# EAGLE library part SFML-107-02-L-D-A (library SFML-107-02-L-D-A)
Check availability <https://pricing.snapeda.com/parts/SFML-107-02-L-D-A/Samtec/view-part?ref=eda>
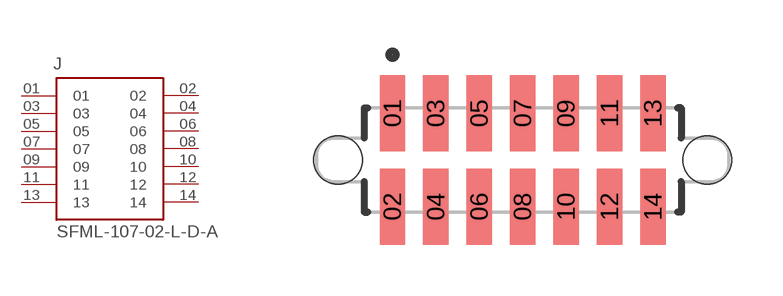
[diagram p0: symbol with the pads of SAMTEC_SFML-107-02-L-D-A; footprint SAMTEC_SFML-107-02-L-D-A]

Designator prefix J

## SFML-107-02-L-D-A (Availability: In Stock; Description: 14 Position Receptacle Connector 0.050 (1.27mm) Surface Mount Gold; MF: Samtec; MP: SFML-107-02-L-D-A; Package: None; Price: None; Purchase-URL: https://pricing.snapeda.com/search/part/SFML-107-02-L-D-A/?ref=eda)  [SAMTEC_SFML-107-02-L-D-A]
01  01  pas
02  02  pas
03  03  pas
04  04  pas
05  05  pas
06  06  pas
07  07  pas
08  08  pas
09  09  pas
10  10  pas
11  11  pas
12  12  pas
13  13  pas
14  14  pas

## Footprint SAMTEC_SFML-107-02-L-D-A (pad centres in mm)
smd 0.74 x 2.22: 01 -3.81,1.365; 02 -3.81,-1.365; 03 -2.54,1.365; 04 -2.54,-1.365; 05 -1.27,1.365; 06 -1.27,-1.365; 07 0,1.365; 08 0,-1.365; 09 1.27,1.365; 10 1.27,-1.365; 11 2.54,1.365; 12 2.54,-1.365; 13 3.81,1.365; 14 3.81,-1.365
hole 1.4 at -5.4,0
hole 1.4 at 5.4,0